# Altium footprint library AutoMOO_PCB_Library.PcbLib: 2 footprints
Each footprint in its own frame and in the unit in brackets; x right, y up, seen from the top. Pads: shape width x height; smd on the part's side, far side on the other; paste and mask are expansions set on the pad; w line width, h text height; cw(c..) or ccw(c..) is an arc to the next point about the centre after c.
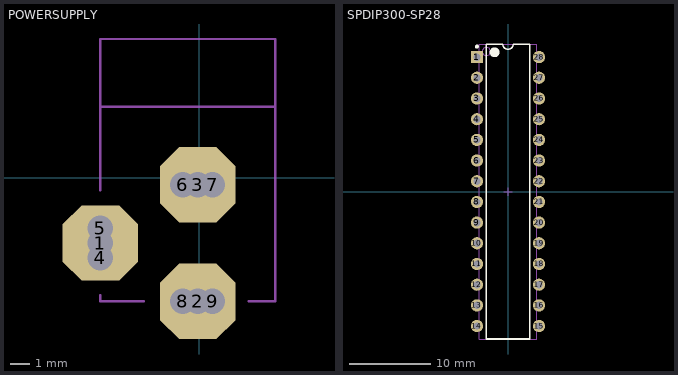
[diagram p0: the footprints below, top view; thin cyan lines are the x and y axes]

## POWERSUPPLY [mil] "POWERSUPPLY_DC-21MM"
pads (9):
  oct 152.48x152.48 / inner oct 60x60 / far side oct 152.48x152.48 hole 51.18: 1(-200,-132) 2(-3,-250) 3(-3,-14)
  round 76.77 / inner round 60 / far side round 76.77 hole 51.18: 4(-200,-162) 5(-200,-102) 6(-33,-14) 7(27,-14) 8(-33,-250) 9(27,-250)
Mechanical 16:
  lines w5: -200,-237.5 -200,-250 -112.5,-250 ; -200,-25 -200,281 154,281 154,144 ; -199,144 154,144 ; 100,-250 154,-250 154,144

## SPDIP300-SP28 [mm] "DIP, 28-Leads, Row Spacing 7.62mm, Pitch 2.54mm, Body 34.9x6.8mm"
height 5.33
pads (28):
  rect 1.5x1.5 hole 0.9: 1(-3.81,16.51)
  round 1.5 hole 0.9: 2(-3.81,13.97) 3(-3.81,11.43) 4(-3.81,8.89) 5(-3.81,6.35) 6(-3.81,3.81) 7(-3.81,1.27) 8(-3.81,-1.27) 9(-3.81,-3.81) 10(-3.81,-6.35) 11(-3.81,-8.89) 12(-3.81,-11.43) 13(-3.81,-13.97) 14(-3.81,-16.51) 15(3.81,-16.51) 16(3.81,-13.97) 17(3.81,-11.43) 18(3.81,-8.89) 19(3.81,-6.35) 20(3.81,-3.81) 21(3.81,-1.27) 22(3.81,1.27) 23(3.81,3.81) 24(3.81,6.35) 25(3.81,8.89) 26(3.81,11.43) 27(3.81,13.97) 28(3.81,16.51)
Top Overlay:
  circle w0.6: c-1.65,17.1 r0.3
  circle w0.25: c-3.81,17.81 r0.125
  lines w0.2: -2.65,-18.1 2.65,-18.1 2.65,18.1 0.635,18.1 cw(c0,18.1) -0.635,18.1 -2.65,18.1 -2.65,-18.1
Mechanical 13:
  circle w0.1: c-2.65,17.2 r0.5
  lines w0.1: -3.55,-18.1 3.55,-18.1 3.55,18.1 -3.55,18.1 -3.55,-18.1
Mechanical 15:
  lines w0.1: -0.5,0 0.5,0 ; 0,-0.5 0,0.5
3D body: height 5.33, standoff 0, extent -3.55,-18.1 3.55,18.1